# Altium schematic symbol library WH-BLE102-HW-V1.100.SchLib: 1 symbol
Pins are listed as number, name and electrical type; pins without a type are passive.

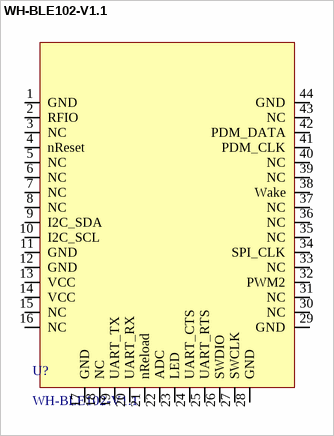
[diagram p0: symbol WH-BLE102-V1.1]

## WH-BLE102-V1.1
designator U?
pins: 1 GND, 2 RFIO, 3 NC, 4 nReset, 5 NC, 6 NC, 7 NC, 8 NC, 9 I2C_SDA, 10 I2C_SCL, 11 GND, 12 GND, 13 VCC, 14 VCC, 15 NC, 16 NC, 17 GND, 18 NC, 19 UART_TX, 20 UART_RX, 21 nReload, 22 ADC, 23 LED, 24 UART_CTS, 25 UART_RTS, 26 SWDIO, 27 SWCLK, 28 GND, 29 GND, 30 NC, 31 NC, 32 PWM2, 33 NC, 34 SPI_CLK, 35 NC, 36 NC, 37 NC, 38 Wake, 39 NC, 40 NC, 41 PDM_CLK, 42 PDM_DATA, 43 NC, 44 GND